# Altium footprint library Main.PcbLib: 3 footprints
Each footprint in its own frame and in the unit in brackets; x right, y up, seen from the top. Pads: shape width x height; smd on the part's side, far side on the other; paste and mask are expansions set on the pad; w line width, h text height; cw(c..) or ccw(c..) is an arc to the next point about the centre after c.
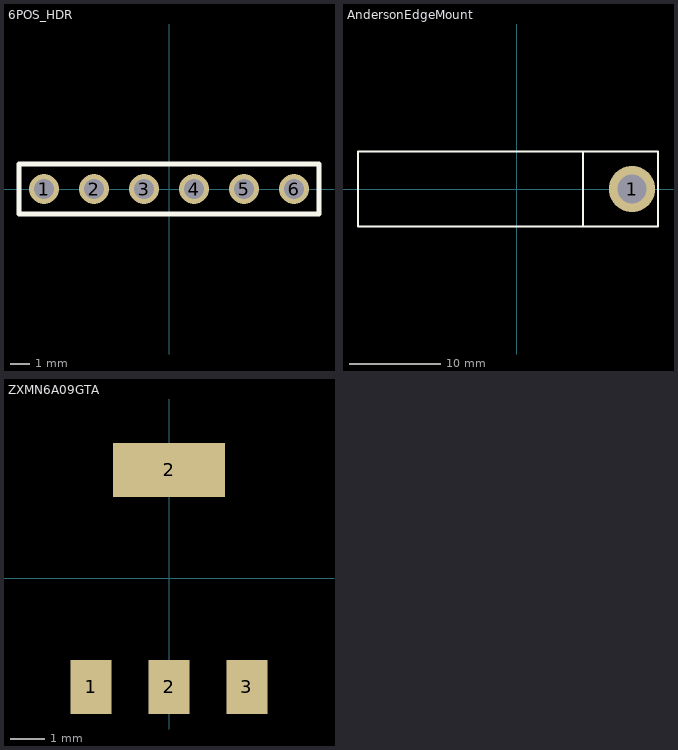
[diagram p0: the footprints below, top view; thin cyan lines are the x and y axes]

## 6POS_HDR [mil] "6 Position 0.1 Pitch Header"
pads (6):
  round 60 hole 40: 1(-250,0) 2(-150,0) 3(-50,0) 4(50,0) 5(150,0) 6(250,0)
Top Overlay:
  lines w10: -300,-50 300,-50 300,50 -300,50 -300,-50

## AndersonEdgeMount [mil] "An edge mounted anderson connector!"
pads (1):
  round 200 hole 125: 1(500,0)
Top Overlay:
  lines w10: 287.5,-162.5 287.5,162.5 ; 287.5,-162.5 612.5,-162.5 612.5,162.5 287.5,162.5 ; 287.5,-162.5 287.5,162.5 ; 287.5,-162.5 -687.5,-162.5 -687.5,162.5 287.5,162.5

## ZXMN6A09GTA [mm] "N-Channel MOSFET 60V 5.4A"
pads (4):
  rect 1.2x1.6 smd: 1(-2.3,-3.2) 2(0,-3.2) 3(2.3,-3.2)
  rect 3.3x1.6 smd: 2(0,3.2)